# EAGLE library part 74LVC574A (library doz)
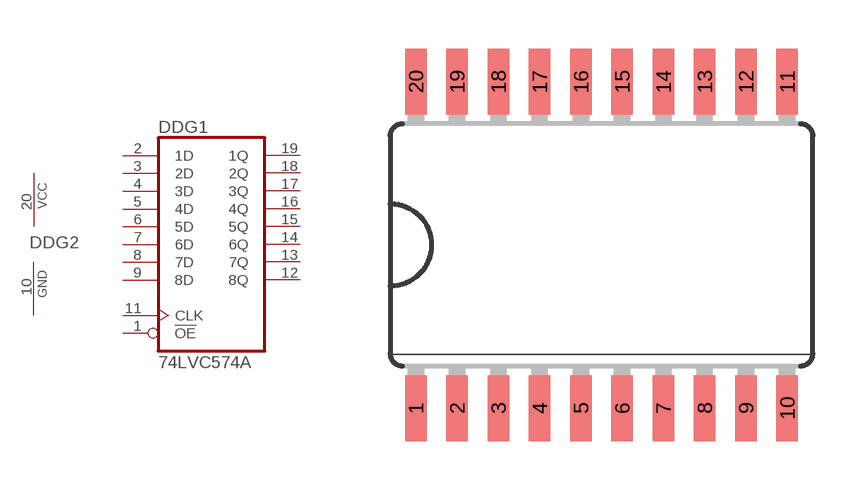
[diagram p25: symbol with the pads of SO20W; footprint SO20W]

Designator prefix DD; gates G1=74574 G2=PWRN

## 74LVC574A  [SO20W]
1  G1:!OE  in
2  G1:1D  in
3  G1:2D  in
4  G1:3D  in
5  G1:4D  in
6  G1:5D  in
7  G1:6D  in
8  G1:7D  in
9  G1:8D  in
10  G2:GND  pwr
11  G1:CLK  in
12  G1:8Q  hiz
13  G1:7Q  hiz
14  G1:6Q  hiz
15  G1:5Q  hiz
16  G1:4Q  hiz
17  G1:3Q  hiz
18  G1:2Q  hiz
19  G1:1Q  hiz
20  G2:VCC  pwr

## Footprint SO20W (pad centres in mm)
Wide Small Outline package 300 mil
smd 0.66 x 2.032: 1 -5.715,-5.029; 2 -4.445,-5.029; 3 -3.175,-5.029; 4 -1.905,-5.029; 5 -0.635,-5.029; 6 0.635,-5.029; 7 1.905,-5.029; 8 3.175,-5.029; 9 4.445,-5.029; 10 5.715,-5.029; 11 5.715,5.029; 12 4.445,5.029; 13 3.175,5.029; 14 1.905,5.029; 15 0.635,5.029; 16 -0.635,5.029; 17 -1.905,5.029; 18 -3.175,5.029; 19 -4.445,5.029; 20 -5.715,5.029